# EAGLE library part OMNETICS_A79026 (library Omnetics_A79026-001)
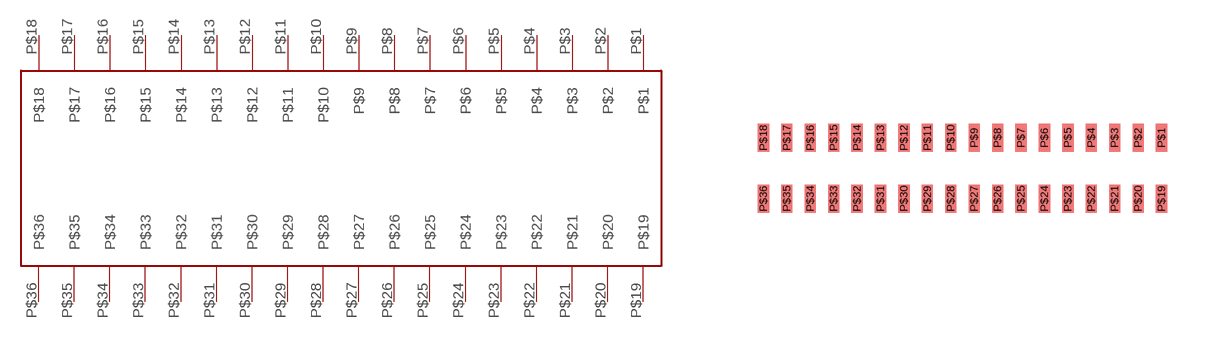
[diagram p0: symbol with the pads of OMNETICS_A79026-001; footprint OMNETICS_A79026-001]

Designator prefix -

## OMNETICS_A79026  [OMNETICS_A79026-001]
P$1  P$1
P$2  P$2
P$3  P$3
P$4  P$4
P$5  P$5
P$6  P$6
P$7  P$7
P$8  P$8
P$9  P$9
P$10  P$10
P$11  P$11
P$12  P$12
P$13  P$13
P$14  P$14
P$15  P$15
P$16  P$16
P$17  P$17
P$18  P$18
P$19  P$19
P$20  P$20
P$21  P$21
P$22  P$22
P$23  P$23
P$24  P$24
P$25  P$25
P$26  P$26
P$27  P$27
P$28  P$28
P$29  P$29
P$30  P$30
P$31  P$31
P$32  P$32
P$33  P$33
P$34  P$34
P$35  P$35
P$36  P$36

## Footprint OMNETICS_A79026-001 (pad centres in mm)
This is an Omnetics connector
smd 0.305 x 0.762: P$1 0,0; P$2 -0.635,0; P$3 -1.27,0; P$4 -1.905,0; P$5 -2.54,0; P$6 -3.175,0; P$7 -3.81,0; P$8 -4.445,0; P$9 -5.08,0; P$10 -5.715,0; P$11 -6.35,0; P$12 -6.985,0; P$13 -7.62,0; P$14 -8.255,0; P$15 -8.89,0; P$16 -9.525,0; P$17 -10.16,0; P$18 -10.795,0; P$19 0,-1.651; P$20 -0.635,-1.651; P$21 -1.27,-1.651; P$22 -1.905,-1.651; P$23 -2.54,-1.651; P$24 -3.175,-1.651; P$25 -3.81,-1.651; P$26 -4.445,-1.651; P$27 -5.08,-1.651; P$28 -5.715,-1.651; P$29 -6.35,-1.651; P$30 -6.985,-1.651; P$31 -7.62,-1.651; P$32 -8.255,-1.651; P$33 -8.89,-1.651; P$34 -9.525,-1.651; P$35 -10.16,-1.651; P$36 -10.795,-1.651